# Altium footprint library Connector_JST.PcbLib: 558 footprints (part 2 of 35)
Each footprint in its own frame and in the unit in brackets; x right, y up, seen from the top. Pads: shape width x height; smd on the part's side, far side on the other; paste and mask are expansions set on the pad; w line width, h text height; cw(c..) or ccw(c..) is an arc to the next point about the centre after c.
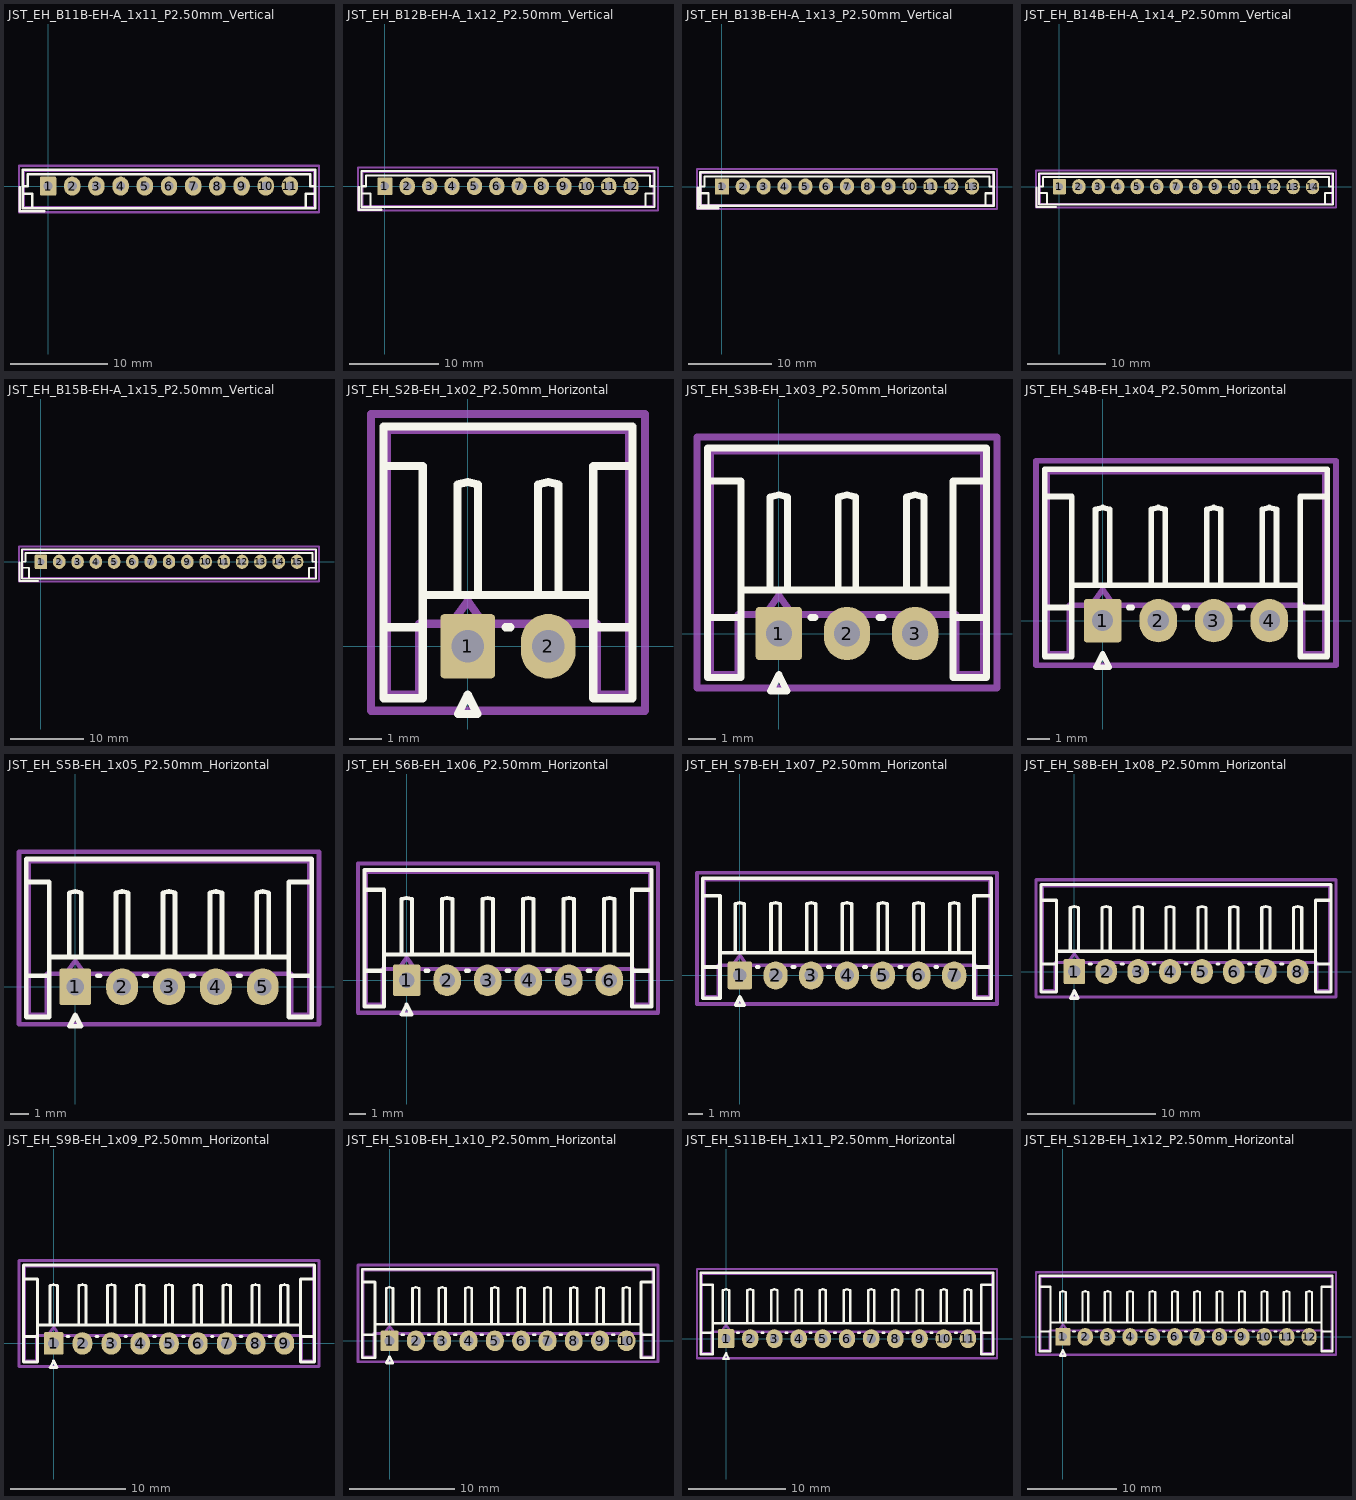
[diagram p1: the footprints below, top view; thin cyan lines are the x and y axes]

## JST_EH_B11B-EH-A_1x11_P2.50mm_Vertical [mm] "JST_EH_B11B-EH-A_1x11_P2.50mm_Vertical"
pads (11):
  rrect15% 1.7x1.95 hole 0.95: 1(0,0)
  rrect100% 1.7x1.95 hole 0.95: 2(2.5,0) 3(5,0) 4(7.5,0) 5(10,0) 6(12.5,0) 7(15,0) 8(17.5,0) 9(20,0) 10(22.5,0) 11(25,0)
F.SilkS:
  lines w0.254: -2.91,-0.11 -2.91,-2.61 -0.41,-2.61 ; -2.61,-0.81 -1.61,-0.81 -1.61,-2.31 ; -2.61,0 -2.11,0 -2.11,1.21 27.11,1.21 27.11,0 27.61,0 ; 26.61,-2.31 26.61,-0.81 27.61,-0.81 ; -2.61,-2.31 27.61,-2.31 27.61,1.71 -2.61,1.71 -2.61,-2.31
Top Component Center:
  lines w0.127: -0.127,0 0.127,0 ; 0,-0.127 0,0.127
Top Assembly:
  lines w0.254: -2.91,-0.11 -2.91,-2.61 -0.41,-2.61 ; -2.5,-2.2 27.5,-2.2 27.5,1.6 -2.5,1.6 -2.5,-2.2
Top Courtyard:
  lines w0.254: -3,-2.7 28,-2.7 28,2.1 -3,2.1 -3,-2.7
Top Designator:
  text ".Designator" at 9.016,-1.995 h1.52
3D body "JST_EH_B11B-EH-A_1x11_P2.50mm_Vertical.step": height 6, standoff -3.2, extent -2.5,-2.2 27.5,1.6

## JST_EH_B12B-EH-A_1x12_P2.50mm_Vertical [mm] "JST_EH_B12B-EH-A_1x12_P2.50mm_Vertical"
pads (12):
  rrect15% 1.7x1.95 hole 0.95: 1(0,0)
  rrect100% 1.7x1.95 hole 0.95: 2(2.5,0) 3(5,0) 4(7.5,0) 5(10,0) 6(12.5,0) 7(15,0) 8(17.5,0) 9(20,0) 10(22.5,0) 11(25,0) 12(27.5,0)
F.SilkS:
  lines w0.254: -2.91,-0.11 -2.91,-2.61 -0.41,-2.61 ; -2.61,-0.81 -1.61,-0.81 -1.61,-2.31 ; -2.61,0 -2.11,0 -2.11,1.21 29.61,1.21 29.61,0 30.11,0 ; 29.11,-2.31 29.11,-0.81 30.11,-0.81 ; -2.61,-2.31 30.11,-2.31 30.11,1.71 -2.61,1.71 -2.61,-2.31
Top Component Center:
  lines w0.127: -0.127,0 0.127,0 ; 0,-0.127 0,0.127
Top Assembly:
  lines w0.254: -2.91,-0.11 -2.91,-2.61 -0.41,-2.61 ; -2.5,-2.2 30,-2.2 30,1.6 -2.5,1.6 -2.5,-2.2
Top Courtyard:
  lines w0.254: -3,-2.7 30.5,-2.7 30.5,2.1 -3,2.1 -3,-2.7
Top Designator:
  text ".Designator" at 10.54,-1.868 h1.52
3D body "JST_EH_B12B-EH-A_1x12_P2.50mm_Vertical.step": height 6, standoff -3.2, extent -2.5,-2.2 30,1.6

## JST_EH_B13B-EH-A_1x13_P2.50mm_Vertical [mm] "JST_EH_B13B-EH-A_1x13_P2.50mm_Vertical"
pads (13):
  rrect15% 1.7x1.95 hole 0.95: 1(0,0)
  rrect100% 1.7x1.95 hole 0.95: 2(2.5,0) 3(5,0) 4(7.5,0) 5(10,0) 6(12.5,0) 7(15,0) 8(17.5,0) 9(20,0) 10(22.5,0) 11(25,0) 12(27.5,0) 13(30,0)
F.SilkS:
  lines w0.254: -2.91,-0.11 -2.91,-2.61 -0.41,-2.61 ; -2.61,-0.81 -1.61,-0.81 -1.61,-2.31 ; -2.61,0 -2.11,0 -2.11,1.21 32.11,1.21 32.11,0 32.61,0 ; 31.61,-2.31 31.61,-0.81 32.61,-0.81 ; -2.61,-2.31 32.61,-2.31 32.61,1.71 -2.61,1.71 -2.61,-2.31
Top Component Center:
  lines w0.127: -0.127,0 0.127,0 ; 0,-0.127 0,0.127
Top Assembly:
  lines w0.254: -2.91,-0.11 -2.91,-2.61 -0.41,-2.61 ; -2.5,-2.2 32.5,-2.2 32.5,1.6 -2.5,1.6 -2.5,-2.2
Top Courtyard:
  lines w0.254: -3,-2.7 33,-2.7 33,2.1 -3,2.1 -3,-2.7
Top Designator:
  text ".Designator" at 11.302,-1.741 h1.52
3D body "JST_EH_B13B-EH-A_1x13_P2.50mm_Vertical.step": height 6, standoff -3.2, extent -2.5,-2.2 32.5,1.6

## JST_EH_B14B-EH-A_1x14_P2.50mm_Vertical [mm] "JST_EH_B14B-EH-A_1x14_P2.50mm_Vertical"
pads (14):
  rrect15% 1.7x1.95 hole 0.95: 1(0,0)
  rrect100% 1.7x1.95 hole 0.95: 2(2.5,0) 3(5,0) 4(7.5,0) 5(10,0) 6(12.5,0) 7(15,0) 8(17.5,0) 9(20,0) 10(22.5,0) 11(25,0) 12(27.5,0) 13(30,0) 14(32.5,0)
F.SilkS:
  lines w0.254: -2.91,-0.11 -2.91,-2.61 -0.41,-2.61 ; -2.61,-0.81 -1.61,-0.81 -1.61,-2.31 ; -2.61,0 -2.11,0 -2.11,1.21 34.61,1.21 34.61,0 35.11,0 ; 34.11,-2.31 34.11,-0.81 35.11,-0.81 ; -2.61,-2.31 35.11,-2.31 35.11,1.71 -2.61,1.71 -2.61,-2.31
Top Component Center:
  lines w0.127: -0.127,0 0.127,0 ; 0,-0.127 0,0.127
Top Assembly:
  lines w0.254: -2.91,-0.11 -2.91,-2.61 -0.41,-2.61 ; -2.5,-2.2 35,-2.2 35,1.6 -2.5,1.6 -2.5,-2.2
Top Courtyard:
  lines w0.254: -3,-2.7 35.5,-2.7 35.5,2.1 -3,2.1 -3,-2.7
Top Designator:
  text ".Designator" at 12.826,-1.995 h1.52
3D body "JST_EH_B14B-EH-A_1x14_P2.50mm_Vertical.step": height 6, standoff -3.2, extent -2.5,-2.2 35,1.6

## JST_EH_B15B-EH-A_1x15_P2.50mm_Vertical [mm] "JST_EH_B15B-EH-A_1x15_P2.50mm_Vertical"
pads (15):
  rrect15% 1.7x1.95 hole 0.95: 1(0,0)
  rrect100% 1.7x1.95 hole 0.95: 2(2.5,0) 3(5,0) 4(7.5,0) 5(10,0) 6(12.5,0) 7(15,0) 8(17.5,0) 9(20,0) 10(22.5,0) 11(25,0) 12(27.5,0) 13(30,0) 14(32.5,0) 15(35,0)
F.SilkS:
  lines w0.254: -2.91,-0.11 -2.91,-2.61 -0.41,-2.61 ; -2.61,-0.81 -1.61,-0.81 -1.61,-2.31 ; -2.61,0 -2.11,0 -2.11,1.21 37.11,1.21 37.11,0 37.61,0 ; 36.61,-2.31 36.61,-0.81 37.61,-0.81 ; -2.61,-2.31 37.61,-2.31 37.61,1.71 -2.61,1.71 -2.61,-2.31
Top Component Center:
  lines w0.127: -0.127,0 0.127,0 ; 0,-0.127 0,0.127
Top Assembly:
  lines w0.254: -2.91,-0.11 -2.91,-2.61 -0.41,-2.61 ; -2.5,-2.2 37.5,-2.2 37.5,1.6 -2.5,1.6 -2.5,-2.2
Top Courtyard:
  lines w0.254: -3,-2.7 38,-2.7 38,2.1 -3,2.1 -3,-2.7
Top Designator:
  text ".Designator" at 13.588,-1.741 h1.52
3D body "JST_EH_B15B-EH-A_1x15_P2.50mm_Vertical.step": height 6, standoff -3.2, extent -2.5,-2.2 37.5,1.6

## JST_EH_S2B-EH_1x02_P2.50mm_Horizontal [mm] "JST_EH_S2B-EH_1x02_P2.50mm_Horizontal"
pads (2):
  rrect15% 1.7x2 hole 1: 1(0,0)
  rrect100% 1.7x2 hole 1: 2(2.5,0)
F.SilkS:
  lines w0.254: -2.61,0.59 -1.39,0.59 ; -2.61,5.59 -1.39,5.59 -1.39,0.59 ; -1.39,1.59 3.89,1.59 ; 1.17,0.59 1.33,0.59 ; 5.11,0.59 3.89,0.59 ; 5.11,5.59 3.89,5.59 3.89,0.59 ; -1.39,0.59 -1.39,-1.61 -2.61,-1.61 -2.61,6.81 5.11,6.81 5.11,-1.61 3.89,-1.61 3.89,0.59 ; -0.32,1.59 0,1.59 0.32,1.59 0.32,5.01 0,5.09 -0.32,5.01 -0.32,1.59 ; -0.3,-2.1 0,-1.5 0.3,-2.1 -0.3,-2.1 ; 2.18,1.59 2.5,1.59 2.82,1.59 2.82,5.01 2.5,5.09 2.18,5.01 2.18,1.59
Top Component Center:
  lines w0.127: -0.127,0 0.127,0 ; 0,-0.127 0,0.127
Top Assembly:
  lines w0.254: -0.5,0.7 0,1.407 0.5,0.7 ; -2.5,-1.5 -1.5,-1.5 -1.5,0.7 4,0.7 4,-1.5 5,-1.5 5,6.7 -2.5,6.7 -2.5,-1.5
Top Courtyard:
  lines w0.254: -3,-2 5.5,-2 5.5,7.2 -3,7.2 -3,-2
Top Designator:
  text ".Designator" at -2.16,5.625 h1.52
3D body "JST_EH_S2B-EH_1x02_P2.50mm_Horizontal.step": height 4.2, standoff -3.2, extent -2.5,-1.5 5,6.7

## JST_EH_S3B-EH_1x03_P2.50mm_Horizontal [mm] "JST_EH_S3B-EH_1x03_P2.50mm_Horizontal"
pads (3):
  rrect15% 1.7x1.95 hole 0.95: 1(0,0)
  rrect100% 1.7x1.95 hole 0.95: 2(2.5,0) 3(5,0)
F.SilkS:
  lines w0.254: -2.61,0.59 -1.39,0.59 ; -2.61,5.59 -1.39,5.59 -1.39,0.59 ; -1.39,1.59 6.39,1.59 ; 1.17,0.59 1.33,0.59 ; 3.67,0.59 3.83,0.59 ; 7.61,0.59 6.39,0.59 ; 7.61,5.59 6.39,5.59 6.39,0.59 ; -1.39,0.59 -1.39,-1.61 -2.61,-1.61 -2.61,6.81 7.61,6.81 7.61,-1.61 6.39,-1.61 6.39,0.59 ; -0.32,1.59 0,1.59 0.32,1.59 0.32,5.01 0,5.09 -0.32,5.01 -0.32,1.59 ; -0.3,-2.1 0,-1.5 0.3,-2.1 -0.3,-2.1 ; 2.18,1.59 2.5,1.59 2.82,1.59 2.82,5.01 2.5,5.09 2.18,5.01 2.18,1.59 ; 4.68,1.59 5,1.59 5.32,1.59 5.32,5.01 5,5.09 4.68,5.01 4.68,1.59
Top Component Center:
  lines w0.127: -0.127,0 0.127,0 ; 0,-0.127 0,0.127
Top Assembly:
  lines w0.254: -0.5,0.7 0,1.407 0.5,0.7 ; -2.5,-1.5 -1.5,-1.5 -1.5,0.7 6.5,0.7 6.5,-1.5 7.5,-1.5 7.5,6.7 -2.5,6.7 -2.5,-1.5
Top Courtyard:
  lines w0.254: -3,-2 8,-2 8,7.2 -3,7.2 -3,-2
Top Designator:
  text ".Designator" at -0.89,5.625 h1.52
3D body "JST_EH_S3B-EH_1x03_P2.50mm_Horizontal.step": height 4.2, standoff -3.2, extent -2.5,-1.5 7.5,6.7

## JST_EH_S4B-EH_1x04_P2.50mm_Horizontal [mm] "JST_EH_S4B-EH_1x04_P2.50mm_Horizontal"
pads (4):
  rrect15% 1.7x1.95 hole 0.95: 1(0,0)
  rrect100% 1.7x1.95 hole 0.95: 2(2.5,0) 3(5,0) 4(7.5,0)
F.SilkS:
  lines w0.254: -2.61,0.59 -1.39,0.59 ; -2.61,5.59 -1.39,5.59 -1.39,0.59 ; -1.39,1.59 8.89,1.59 ; 1.17,0.59 1.33,0.59 ; 3.67,0.59 3.83,0.59 ; 6.17,0.59 6.33,0.59 ; 10.11,0.59 8.89,0.59 ; 10.11,5.59 8.89,5.59 8.89,0.59 ; -1.39,0.59 -1.39,-1.61 -2.61,-1.61 -2.61,6.81 10.11,6.81 10.11,-1.61 8.89,-1.61 8.89,0.59 ; -0.32,1.59 -0.32,5.01 0,5.09 0.32,5.01 0.32,1.59 0,1.59 -0.32,1.59 ; -0.3,-2.1 0.3,-2.1 0,-1.5 -0.3,-2.1 ; 2.18,1.59 2.18,5.01 2.5,5.09 2.82,5.01 2.82,1.59 2.5,1.59 2.18,1.59 ; 4.68,1.59 4.68,5.01 5,5.09 5.32,5.01 5.32,1.59 5,1.59 4.68,1.59 ; 7.18,1.59 7.18,5.01 7.5,5.09 7.82,5.01 7.82,1.59 7.5,1.59 7.18,1.59
Top Component Center:
  lines w0.127: -0.127,0 0.127,0 ; 0,-0.127 0,0.127
Top Assembly:
  lines w0.254: -0.5,0.7 0,1.407 0.5,0.7 ; -2.5,-1.5 -2.5,6.7 10,6.7 10,-1.5 9,-1.5 9,0.7 -1.5,0.7 -1.5,-1.5 -2.5,-1.5
Top Courtyard:
  lines w0.254: -3,-2 -3,7.2 10.5,7.2 10.5,-2 -3,-2
Top Designator:
  text ".Designator" at 0.126,5.498 h1.52
3D body "JST_EH_S4B-EH_1x04_P2.50mm_Horizontal.step": height 4.2, standoff -3.2, extent -2.5,-1.5 10,6.7

## JST_EH_S5B-EH_1x05_P2.50mm_Horizontal [mm] "JST_EH_S5B-EH_1x05_P2.50mm_Horizontal"
pads (5):
  rrect15% 1.7x1.95 hole 0.95: 1(0,0)
  rrect100% 1.7x1.95 hole 0.95: 2(2.5,0) 3(5,0) 4(7.5,0) 5(10,0)
F.SilkS:
  lines w0.254: -2.61,0.59 -1.39,0.59 ; -2.61,5.59 -1.39,5.59 -1.39,0.59 ; -1.39,1.59 11.39,1.59 ; 1.17,0.59 1.33,0.59 ; 3.67,0.59 3.83,0.59 ; 6.17,0.59 6.33,0.59 ; 8.67,0.59 8.83,0.59 ; 12.61,0.59 11.39,0.59 ; 12.61,5.59 11.39,5.59 11.39,0.59 ; -1.39,0.59 -1.39,-1.61 -2.61,-1.61 -2.61,6.81 12.61,6.81 12.61,-1.61 11.39,-1.61 11.39,0.59 ; -0.32,1.59 -0.32,5.01 0,5.09 0.32,5.01 0.32,1.59 0,1.59 -0.32,1.59 ; -0.3,-2.1 0.3,-2.1 0,-1.5 -0.3,-2.1 ; 2.18,1.59 2.18,5.01 2.5,5.09 2.82,5.01 2.82,1.59 2.5,1.59 2.18,1.59 ; 4.68,1.59 4.68,5.01 5,5.09 5.32,5.01 5.32,1.59 5,1.59 4.68,1.59 ; 7.18,1.59 7.18,5.01 7.5,5.09 7.82,5.01 7.82,1.59 7.5,1.59 7.18,1.59 ; 9.68,1.59 9.68,5.01 10,5.09 10.32,5.01 10.32,1.59 10,1.59 9.68,1.59
Top Component Center:
  lines w0.127: -0.127,0 0.127,0 ; 0,-0.127 0,0.127
Top Assembly:
  lines w0.254: -0.5,0.7 0,1.407 0.5,0.7 ; -2.5,-1.5 -2.5,6.7 12.5,6.7 12.5,-1.5 11.5,-1.5 11.5,0.7 -1.5,0.7 -1.5,-1.5 -2.5,-1.5
Top Courtyard:
  lines w0.254: -3,-2 -3,7.2 13,7.2 13,-2 -3,-2
Top Designator:
  text ".Designator" at 1.396,5.625 h1.52
3D body "JST_EH_S5B-EH_1x05_P2.50mm_Horizontal.step": height 4.2, standoff -3.2, extent -2.5,-1.5 12.5,6.7

## JST_EH_S6B-EH_1x06_P2.50mm_Horizontal [mm] "JST_EH_S6B-EH_1x06_P2.50mm_Horizontal"
pads (6):
  rrect15% 1.7x1.95 hole 0.95: 1(0,0)
  rrect100% 1.7x1.95 hole 0.95: 2(2.5,0) 3(5,0) 4(7.5,0) 5(10,0) 6(12.5,0)
F.SilkS:
  lines w0.254: -2.61,0.59 -1.39,0.59 ; -2.61,5.59 -1.39,5.59 -1.39,0.59 ; -1.39,1.59 13.89,1.59 ; 1.17,0.59 1.33,0.59 ; 3.67,0.59 3.83,0.59 ; 6.17,0.59 6.33,0.59 ; 8.67,0.59 8.83,0.59 ; 11.17,0.59 11.33,0.59 ; 15.11,0.59 13.89,0.59 ; 15.11,5.59 13.89,5.59 13.89,0.59 ; -1.39,0.59 -1.39,-1.61 -2.61,-1.61 -2.61,6.81 15.11,6.81 15.11,-1.61 13.89,-1.61 13.89,0.59 ; -0.32,1.59 -0.32,5.01 0,5.09 0.32,5.01 0.32,1.59 0,1.59 -0.32,1.59 ; -0.3,-2.1 0.3,-2.1 0,-1.5 -0.3,-2.1 ; 2.18,1.59 2.18,5.01 2.5,5.09 2.82,5.01 2.82,1.59 2.5,1.59 2.18,1.59 ; 4.68,1.59 4.68,5.01 5,5.09 5.32,5.01 5.32,1.59 5,1.59 4.68,1.59 ; 7.18,1.59 7.18,5.01 7.5,5.09 7.82,5.01 7.82,1.59 7.5,1.59 7.18,1.59 ; 9.68,1.59 9.68,5.01 10,5.09 10.32,5.01 10.32,1.59 10,1.59 9.68,1.59 ; 12.18,1.59 12.18,5.01 12.5,5.09 12.82,5.01 12.82,1.59 12.5,1.59 12.18,1.59
Top Component Center:
  lines w0.127: -0.127,0 0.127,0 ; 0,-0.127 0,0.127
Top Assembly:
  lines w0.254: -0.5,0.7 0,1.407 0.5,0.7 ; -2.5,-1.5 -2.5,6.7 15,6.7 15,-1.5 14,-1.5 14,0.7 -1.5,0.7 -1.5,-1.5 -2.5,-1.5
Top Courtyard:
  lines w0.254: -3,-2 -3,7.2 15.5,7.2 15.5,-2 -3,-2
Top Designator:
  text ".Designator" at 2.793,5.498 h1.52
3D body "JST_EH_S6B-EH_1x06_P2.50mm_Horizontal.step": height 4.2, standoff -3.2, extent -2.5,-1.5 15,6.7

## JST_EH_S7B-EH_1x07_P2.50mm_Horizontal [mm] "JST_EH_S7B-EH_1x07_P2.50mm_Horizontal"
pads (7):
  rrect15% 1.7x1.95 hole 0.95: 1(0,0)
  rrect100% 1.7x1.95 hole 0.95: 2(2.5,0) 3(5,0) 4(7.5,0) 5(10,0) 6(12.5,0) 7(15,0)
F.SilkS:
  lines w0.254: -2.61,0.59 -1.39,0.59 ; -2.61,5.59 -1.39,5.59 -1.39,0.59 ; -1.39,1.59 16.39,1.59 ; 1.17,0.59 1.33,0.59 ; 3.67,0.59 3.83,0.59 ; 6.17,0.59 6.33,0.59 ; 8.67,0.59 8.83,0.59 ; 11.17,0.59 11.33,0.59 ; 13.67,0.59 13.83,0.59 ; 17.61,0.59 16.39,0.59 ; 17.61,5.59 16.39,5.59 16.39,0.59 ; -1.39,0.59 -1.39,-1.61 -2.61,-1.61 -2.61,6.81 17.61,6.81 17.61,-1.61 16.39,-1.61 16.39,0.59 ; -0.32,1.59 0,1.59 0.32,1.59 0.32,5.01 0,5.09 -0.32,5.01 -0.32,1.59 ; -0.3,-2.1 0,-1.5 0.3,-2.1 -0.3,-2.1 ; 2.18,1.59 2.5,1.59 2.82,1.59 2.82,5.01 2.5,5.09 2.18,5.01 2.18,1.59 ; 4.68,1.59 5,1.59 5.32,1.59 5.32,5.01 5,5.09 4.68,5.01 4.68,1.59 ; 7.18,1.59 7.5,1.59 7.82,1.59 7.82,5.01 7.5,5.09 7.18,5.01 7.18,1.59 ; 9.68,1.59 10,1.59 10.32,1.59 10.32,5.01 10,5.09 9.68,5.01 9.68,1.59 ; 12.18,1.59 12.5,1.59 12.82,1.59 12.82,5.01 12.5,5.09 12.18,5.01 12.18,1.59 ; 14.68,1.59 15,1.59 15.32,1.59 15.32,5.01 15,5.09 14.68,5.01 14.68,1.59
Top Component Center:
  lines w0.127: -0.127,0 0.127,0 ; 0,-0.127 0,0.127
Top Assembly:
  lines w0.254: -0.5,0.7 0,1.407 0.5,0.7 ; -2.5,-1.5 -1.5,-1.5 -1.5,0.7 16.5,0.7 16.5,-1.5 17.5,-1.5 17.5,6.7 -2.5,6.7 -2.5,-1.5
Top Courtyard:
  lines w0.254: -3,-2 18,-2 18,7.2 -3,7.2 -3,-2
Top Designator:
  text ".Designator" at 4.063,5.625 h1.52
3D body "JST_EH_S7B-EH_1x07_P2.50mm_Horizontal.step": height 4.2, standoff -3.2, extent -2.5,-1.5 17.5,6.7

## JST_EH_S8B-EH_1x08_P2.50mm_Horizontal [mm] "JST_EH_S8B-EH_1x08_P2.50mm_Horizontal"
pads (8):
  rrect15% 1.7x1.95 hole 0.95: 1(0,0)
  rrect100% 1.7x1.95 hole 0.95: 2(2.5,0) 3(5,0) 4(7.5,0) 5(10,0) 6(12.5,0) 7(15,0) 8(17.5,0)
F.SilkS:
  lines w0.254: -2.61,0.59 -1.39,0.59 ; -2.61,5.59 -1.39,5.59 -1.39,0.59 ; -1.39,1.59 18.89,1.59 ; 1.17,0.59 1.33,0.59 ; 3.67,0.59 3.83,0.59 ; 6.17,0.59 6.33,0.59 ; 8.67,0.59 8.83,0.59 ; 11.17,0.59 11.33,0.59 ; 13.67,0.59 13.83,0.59 ; 16.17,0.59 16.33,0.59 ; 20.11,0.59 18.89,0.59 ; 20.11,5.59 18.89,5.59 18.89,0.59 ; -1.39,0.59 -1.39,-1.61 -2.61,-1.61 -2.61,6.81 20.11,6.81 20.11,-1.61 18.89,-1.61 18.89,0.59 ; -0.32,1.59 -0.32,5.01 0,5.09 0.32,5.01 0.32,1.59 0,1.59 -0.32,1.59 ; -0.3,-2.1 0.3,-2.1 0,-1.5 -0.3,-2.1 ; 2.18,1.59 2.18,5.01 2.5,5.09 2.82,5.01 2.82,1.59 2.5,1.59 2.18,1.59 ; 4.68,1.59 4.68,5.01 5,5.09 5.32,5.01 5.32,1.59 5,1.59 4.68,1.59 ; 7.18,1.59 7.18,5.01 7.5,5.09 7.82,5.01 7.82,1.59 7.5,1.59 7.18,1.59 ; 9.68,1.59 9.68,5.01 10,5.09 10.32,5.01 10.32,1.59 10,1.59 9.68,1.59 ; 12.18,1.59 12.18,5.01 12.5,5.09 12.82,5.01 12.82,1.59 12.5,1.59 12.18,1.59 ; 14.68,1.59 14.68,5.01 15,5.09 15.32,5.01 15.32,1.59 15,1.59 14.68,1.59 ; 17.18,1.59 17.18,5.01 17.5,5.09 17.82,5.01 17.82,1.59 17.5,1.59 17.18,1.59
Top Component Center:
  lines w0.127: -0.127,0 0.127,0 ; 0,-0.127 0,0.127
Top Assembly:
  lines w0.254: -0.5,0.7 0,1.407 0.5,0.7 ; -2.5,-1.5 -2.5,6.7 20,6.7 20,-1.5 19,-1.5 19,0.7 -1.5,0.7 -1.5,-1.5 -2.5,-1.5
Top Courtyard:
  lines w0.254: -3,-2 -3,7.2 20.5,7.2 20.5,-2 -3,-2
Top Designator:
  text ".Designator" at 4.825,5.625 h1.52
3D body "JST_EH_S8B-EH_1x08_P2.50mm_Horizontal.step": height 4.2, standoff -3.2, extent -2.5,-1.5 20,6.7

## JST_EH_S9B-EH_1x09_P2.50mm_Horizontal [mm] "JST_EH_S9B-EH_1x09_P2.50mm_Horizontal"
pads (9):
  rrect15% 1.7x1.95 hole 0.95: 1(0,0)
  rrect100% 1.7x1.95 hole 0.95: 2(2.5,0) 3(5,0) 4(7.5,0) 5(10,0) 6(12.5,0) 7(15,0) 8(17.5,0) 9(20,0)
F.SilkS:
  lines w0.254: -2.61,0.59 -1.39,0.59 ; -2.61,5.59 -1.39,5.59 -1.39,0.59 ; -1.39,1.59 21.39,1.59 ; 1.17,0.59 1.33,0.59 ; 3.67,0.59 3.83,0.59 ; 6.17,0.59 6.33,0.59 ; 8.67,0.59 8.83,0.59 ; 11.17,0.59 11.33,0.59 ; 13.67,0.59 13.83,0.59 ; 16.17,0.59 16.33,0.59 ; 18.67,0.59 18.83,0.59 ; 22.61,0.59 21.39,0.59 ; 22.61,5.59 21.39,5.59 21.39,0.59 ; -1.39,0.59 -1.39,-1.61 -2.61,-1.61 -2.61,6.81 22.61,6.81 22.61,-1.61 21.39,-1.61 21.39,0.59 ; -0.32,1.59 -0.32,5.01 0,5.09 0.32,5.01 0.32,1.59 0,1.59 -0.32,1.59 ; -0.3,-2.1 0.3,-2.1 0,-1.5 -0.3,-2.1 ; 2.18,1.59 2.18,5.01 2.5,5.09 2.82,5.01 2.82,1.59 2.5,1.59 2.18,1.59 ; 4.68,1.59 4.68,5.01 5,5.09 5.32,5.01 5.32,1.59 5,1.59 4.68,1.59 ; 7.18,1.59 7.18,5.01 7.5,5.09 7.82,5.01 7.82,1.59 7.5,1.59 7.18,1.59 ; 9.68,1.59 9.68,5.01 10,5.09 10.32,5.01 10.32,1.59 10,1.59 9.68,1.59 ; 12.18,1.59 12.18,5.01 12.5,5.09 12.82,5.01 12.82,1.59 12.5,1.59 12.18,1.59 ; 14.68,1.59 14.68,5.01 15,5.09 15.32,5.01 15.32,1.59 15,1.59 14.68,1.59 ; 17.18,1.59 17.18,5.01 17.5,5.09 17.82,5.01 17.82,1.59 17.5,1.59 17.18,1.59 ; 19.68,1.59 19.68,5.01 20,5.09 20.32,5.01 20.32,1.59 20,1.59 19.68,1.59
Top Component Center:
  lines w0.127: -0.127,0 0.127,0 ; 0,-0.127 0,0.127
Top Assembly:
  lines w0.254: -0.5,0.7 0,1.407 0.5,0.7 ; -2.5,-1.5 -2.5,6.7 22.5,6.7 22.5,-1.5 21.5,-1.5 21.5,0.7 -1.5,0.7 -1.5,-1.5 -2.5,-1.5
Top Courtyard:
  lines w0.254: -3,-2 -3,7.2 23,7.2 23,-2 -3,-2
Top Designator:
  text ".Designator" at 6.222,5.625 h1.52
3D body "JST_EH_S9B-EH_1x09_P2.50mm_Horizontal.step": height 4.2, standoff -3.2, extent -2.5,-1.5 22.5,6.7

## JST_EH_S10B-EH_1x10_P2.50mm_Horizontal [mm] "JST_EH_S10B-EH_1x10_P2.50mm_Horizontal"
pads (10):
  rrect15% 1.7x1.95 hole 0.95: 1(0,0)
  rrect100% 1.7x1.95 hole 0.95: 2(2.5,0) 3(5,0) 4(7.5,0) 5(10,0) 6(12.5,0) 7(15,0) 8(17.5,0) 9(20,0) 10(22.5,0)
F.SilkS:
  lines w0.254: -2.61,0.59 -1.39,0.59 ; -2.61,5.59 -1.39,5.59 -1.39,0.59 ; -1.39,1.59 23.89,1.59 ; 1.17,0.59 1.33,0.59 ; 3.67,0.59 3.83,0.59 ; 6.17,0.59 6.33,0.59 ; 8.67,0.59 8.83,0.59 ; 11.17,0.59 11.33,0.59 ; 13.67,0.59 13.83,0.59 ; 16.17,0.59 16.33,0.59 ; 18.67,0.59 18.83,0.59 ; 21.17,0.59 21.33,0.59 ; 25.11,0.59 23.89,0.59 ; 25.11,5.59 23.89,5.59 23.89,0.59 ; -1.39,0.59 -1.39,-1.61 -2.61,-1.61 -2.61,6.81 25.11,6.81 25.11,-1.61 23.89,-1.61 23.89,0.59 ; -0.32,1.59 0,1.59 0.32,1.59 0.32,5.01 0,5.09 -0.32,5.01 -0.32,1.59 ; -0.3,-2.1 0,-1.5 0.3,-2.1 -0.3,-2.1 ; 2.18,1.59 2.5,1.59 2.82,1.59 2.82,5.01 2.5,5.09 2.18,5.01 2.18,1.59 ; 4.68,1.59 5,1.59 5.32,1.59 5.32,5.01 5,5.09 4.68,5.01 4.68,1.59 ; 7.18,1.59 7.5,1.59 7.82,1.59 7.82,5.01 7.5,5.09 7.18,5.01 7.18,1.59 ; 9.68,1.59 10,1.59 10.32,1.59 10.32,5.01 10,5.09 9.68,5.01 9.68,1.59 ; 12.18,1.59 12.5,1.59 12.82,1.59 12.82,5.01 12.5,5.09 12.18,5.01 12.18,1.59 ; 14.68,1.59 15,1.59 15.32,1.59 15.32,5.01 15,5.09 14.68,5.01 14.68,1.59 ; 17.18,1.59 17.5,1.59 17.82,1.59 17.82,5.01 17.5,5.09 17.18,5.01 17.18,1.59 ; 19.68,1.59 20,1.59 20.32,1.59 20.32,5.01 20,5.09 19.68,5.01 19.68,1.59 ; 22.18,1.59 22.5,1.59 22.82,1.59 22.82,5.01 22.5,5.09 22.18,5.01 22.18,1.59
Top Component Center:
  lines w0.127: -0.127,0 0.127,0 ; 0,-0.127 0,0.127
Top Assembly:
  lines w0.254: -0.5,0.7 0,1.407 0.5,0.7 ; -2.5,-1.5 -1.5,-1.5 -1.5,0.7 24,0.7 24,-1.5 25,-1.5 25,6.7 -2.5,6.7 -2.5,-1.5
Top Courtyard:
  lines w0.254: -3,-2 25.5,-2 25.5,7.2 -3,7.2 -3,-2
Top Designator:
  text ".Designator" at 7.746,5.498 h1.52
3D body "JST_EH_S10B-EH_1x10_P2.50mm_Horizontal.step": height 4.2, standoff -3.2, extent -2.5,-1.5 25,6.7

## JST_EH_S11B-EH_1x11_P2.50mm_Horizontal [mm] "JST_EH_S11B-EH_1x11_P2.50mm_Horizontal"
pads (11):
  rrect15% 1.7x1.95 hole 0.95: 1(0,0)
  rrect100% 1.7x1.95 hole 0.95: 2(2.5,0) 3(5,0) 4(7.5,0) 5(10,0) 6(12.5,0) 7(15,0) 8(17.5,0) 9(20,0) 10(22.5,0) 11(25,0)
F.SilkS:
  lines w0.254: -2.61,0.59 -1.39,0.59 ; -2.61,5.59 -1.39,5.59 -1.39,0.59 ; -1.39,1.59 26.39,1.59 ; 1.17,0.59 1.33,0.59 ; 3.67,0.59 3.83,0.59 ; 6.17,0.59 6.33,0.59 ; 8.67,0.59 8.83,0.59 ; 11.17,0.59 11.33,0.59 ; 13.67,0.59 13.83,0.59 ; 16.17,0.59 16.33,0.59 ; 18.67,0.59 18.83,0.59 ; 21.17,0.59 21.33,0.59 ; 23.67,0.59 23.83,0.59 ; 27.61,0.59 26.39,0.59 ; 27.61,5.59 26.39,5.59 26.39,0.59 ; -1.39,0.59 -1.39,-1.61 -2.61,-1.61 -2.61,6.81 27.61,6.81 27.61,-1.61 26.39,-1.61 26.39,0.59 ; -0.32,1.59 -0.32,5.01 0,5.09 0.32,5.01 0.32,1.59 0,1.59 -0.32,1.59 ; -0.3,-2.1 0.3,-2.1 0,-1.5 -0.3,-2.1 ; 2.18,1.59 2.18,5.01 2.5,5.09 2.82,5.01 2.82,1.59 2.5,1.59 2.18,1.59 ; 4.68,1.59 4.68,5.01 5,5.09 5.32,5.01 5.32,1.59 5,1.59 4.68,1.59 ; 7.18,1.59 7.18,5.01 7.5,5.09 7.82,5.01 7.82,1.59 7.5,1.59 7.18,1.59 ; 9.68,1.59 9.68,5.01 10,5.09 10.32,5.01 10.32,1.59 10,1.59 9.68,1.59 ; 12.18,1.59 12.18,5.01 12.5,5.09 12.82,5.01 12.82,1.59 12.5,1.59 12.18,1.59 ; 14.68,1.59 14.68,5.01 15,5.09 15.32,5.01 15.32,1.59 15,1.59 14.68,1.59 ; 17.18,1.59 17.18,5.01 17.5,5.09 17.82,5.01 17.82,1.59 17.5,1.59 17.18,1.59 ; 19.68,1.59 19.68,5.01 20,5.09 20.32,5.01 20.32,1.59 20,1.59 19.68,1.59 ; 22.18,1.59 22.18,5.01 22.5,5.09 22.82,5.01 22.82,1.59 22.5,1.59 22.18,1.59 ; 24.68,1.59 24.68,5.01 25,5.09 25.32,5.01 25.32,1.59 25,1.59 24.68,1.59
Top Component Center:
  lines w0.127: -0.127,0 0.127,0 ; 0,-0.127 0,0.127
Top Assembly:
  lines w0.254: -0.5,0.7 0,1.407 0.5,0.7 ; -2.5,-1.5 -2.5,6.7 27.5,6.7 27.5,-1.5 26.5,-1.5 26.5,0.7 -1.5,0.7 -1.5,-1.5 -2.5,-1.5
Top Courtyard:
  lines w0.254: -3,-2 -3,7.2 28,7.2 28,-2 -3,-2
Top Designator:
  text ".Designator" at 8.889,5.625 h1.52
3D body "JST_EH_S11B-EH_1x11_P2.50mm_Horizontal.step": height 4.2, standoff -3.2, extent -2.5,-1.5 27.5,6.7

## JST_EH_S12B-EH_1x12_P2.50mm_Horizontal [mm]
pads (12):
  rrect15% 1.7x1.95 hole 0.95: 1(0,0)
  rrect100% 1.7x1.95 hole 0.95: 2(2.5,0) 3(5,0) 4(7.5,0) 5(10,0) 6(12.5,0) 7(15,0) 8(17.5,0) 9(20,0) 10(22.5,0) 11(25,0) 12(27.5,0)
F.SilkS:
  lines w0.254: -2.61,0.59 -1.39,0.59 ; -2.61,5.59 -1.39,5.59 -1.39,0.59 ; -1.39,1.59 28.89,1.59 ; 1.17,0.59 1.33,0.59 ; 3.67,0.59 3.83,0.59 ; 6.17,0.59 6.33,0.59 ; 8.67,0.59 8.83,0.59 ; 11.17,0.59 11.33,0.59 ; 13.67,0.59 13.83,0.59 ; 16.17,0.59 16.33,0.59 ; 18.67,0.59 18.83,0.59 ; 21.17,0.59 21.33,0.59 ; 23.67,0.59 23.83,0.59 ; 26.17,0.59 26.33,0.59 ; 30.11,0.59 28.89,0.59 ; 30.11,5.59 28.89,5.59 28.89,0.59 ; -1.39,0.59 -1.39,-1.61 -2.61,-1.61 -2.61,6.81 30.11,6.81 30.11,-1.61 28.89,-1.61 28.89,0.59 ; -0.32,1.59 0,1.59 0.32,1.59 0.32,5.01 0,5.09 -0.32,5.01 -0.32,1.59 ; -0.3,-2.1 0,-1.5 0.3,-2.1 -0.3,-2.1 ; 2.18,1.59 2.5,1.59 2.82,1.59 2.82,5.01 2.5,5.09 2.18,5.01 2.18,1.59 ; 4.68,1.59 5,1.59 5.32,1.59 5.32,5.01 5,5.09 4.68,5.01 4.68,1.59 ; 7.18,1.59 7.5,1.59 7.82,1.59 7.82,5.01 7.5,5.09 7.18,5.01 7.18,1.59 ; 9.68,1.59 10,1.59 10.32,1.59 10.32,5.01 10,5.09 9.68,5.01 9.68,1.59 ; 12.18,1.59 12.5,1.59 12.82,1.59 12.82,5.01 12.5,5.09 12.18,5.01 12.18,1.59 ; 14.68,1.59 15,1.59 15.32,1.59 15.32,5.01 15,5.09 14.68,5.01 14.68,1.59 ; 17.18,1.59 17.5,1.59 17.82,1.59 17.82,5.01 17.5,5.09 17.18,5.01 17.18,1.59 ; 19.68,1.59 20,1.59 20.32,1.59 20.32,5.01 20,5.09 19.68,5.01 19.68,1.59 ; 22.18,1.59 22.5,1.59 22.82,1.59 22.82,5.01 22.5,5.09 22.18,5.01 22.18,1.59 ; 24.68,1.59 25,1.59 25.32,1.59 25.32,5.01 25,5.09 24.68,5.01 24.68,1.59 ; 27.18,1.59 27.5,1.59 27.82,1.59 27.82,5.01 27.5,5.09 27.18,5.01 27.18,1.59
Top Component Center:
  lines w0.127: -0.127,0 0.127,0 ; 0,-0.127 0,0.127
Top Assembly:
  lines w0.254: -0.5,0.7 0,1.407 0.5,0.7 ; -2.5,-1.5 -1.5,-1.5 -1.5,0.7 29,0.7 29,-1.5 30,-1.5 30,6.7 -2.5,6.7 -2.5,-1.5
Top Courtyard:
  lines w0.254: -3,-2 30.5,-2 30.5,7.2 -3,7.2 -3,-2
Top Designator:
  text ".Designator" at 10.286,5.371 h1.52
3D body "JST_EH_S12B-EH_1x12_P2.50mm_Horizontal.step": height 4.2, standoff -3.2, extent -2.5,-1.5 30,6.7